# EAGLE library part LT3090EDDPBF (library linear-technology-jqi)
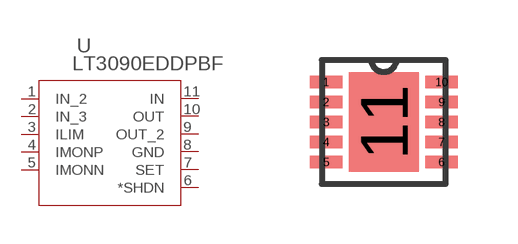
[diagram p3: symbol with the pads of DFN-10_DD; footprint DFN-10_DD]

Designator prefix U

## LT3090EDDPBF (MANUFACTURER_PART_NUMBER: lt3090edd#pbf; VENDOR: Linear Technology)  [DFN-10_DD]
1  IN_2  in
2  IN_3  in
3  ILIM  pas
4  IMONP  out
5  IMONN  out
6  *SHDN  out
7  SET  in
8  GND  pwr
9  OUT_2  out
10  OUT  out
11  IN  in

## Footprint DFN-10_DD (pad centres in mm)
smd 0.813 x 0.305: 1 -1.448,1; 2 -1.448,0.5; 3 -1.448,0; 4 -1.448,-0.5; 5 -1.448,-1; 6 1.448,-1; 7 1.448,-0.5; 8 1.448,0; 9 1.448,0.5; 10 1.448,1
smd 1.753 x 2.489: 11 0,0